# EAGLE library part PCI-E_POWER_6 (library SteelCaveRobotics-Connectors)
Molex 45558-0003 PCIe 6 Pin Power Header
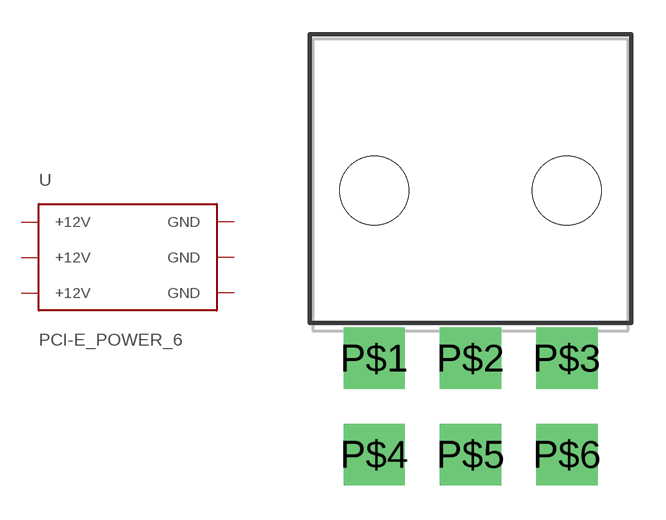
[diagram p0: symbol with the pads of 45558-0003; footprint 45558-0003]

Designator prefix -

## PCI-E_POWER_6  [45558-0003]
P$1  +12V  pwr
P$2  +12V  pwr
P$3  +12V  pwr
P$4  GND  pwr
P$5  GND  pwr
P$6  GND  pwr

## Footprint 45558-0003 (pad centres in mm)
Molex 45558-0003 6 Pin PCIe Power Header
drill 1.778 square: P$1 -3.81,-5.334; P$2 0.381,-5.334; P$3 4.572,-5.334; P$4 -3.81,-9.525; P$5 0.381,-9.525; P$6 4.572,-9.525
hole 2.997 at -3.81,1.956
hole 2.997 at 4.572,1.956